# EAGLE library part PCM5100A (library uPlaits_SE_Library)
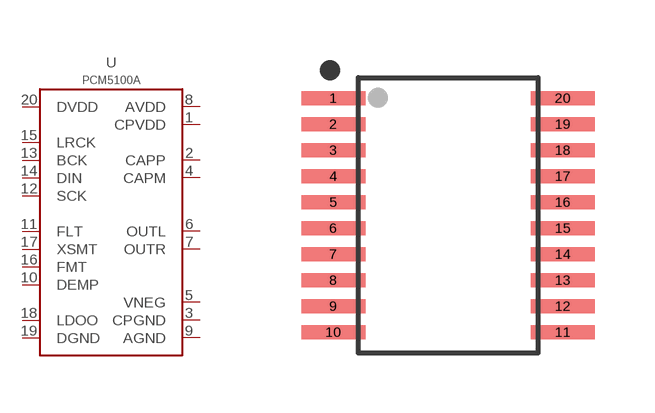
[diagram p4: symbol with the pads of TSSOP-20; footprint TSSOP-20]

Designator prefix U

## PCM5100A-TSSOP-20  [TSSOP-20]
1  CPVDD
2  CAPP
3  CPGND
4  CAPM
5  VNEG
6  OUTL
7  OUTR
8  AVDD
9  AGND
10  DEMP
11  FLT
12  SCK
13  BCK
14  DIN
15  LRCK
16  FMT
17  XSMT
18  LDOO
19  DGND
20  DVDD

## Footprint TSSOP-20 (pad centres in mm)
smd 1.6 x 0.35: 1 -2.872,2.925; 2 -2.872,2.275; 3 -2.872,1.625; 4 -2.872,0.975; 5 -2.872,0.325; 6 -2.872,-0.325; 7 -2.872,-0.975; 8 -2.872,-1.625; 9 -2.872,-2.275; 10 -2.872,-2.925; 11 2.872,-2.925; 12 2.872,-2.275; 13 2.872,-1.625; 14 2.872,-0.975; 15 2.872,-0.325; 16 2.872,0.325; 17 2.872,0.975; 18 2.872,1.625; 19 2.872,2.275; 20 2.872,2.925